# Altium schematic symbol library NX3L1T3157GM,115.SchLib: 2 symbols
Pins are listed as number, name and electrical type; pins without a type are passive.

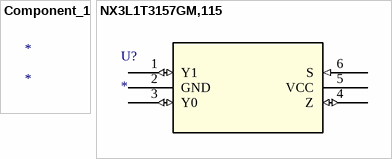
[diagram p0: symbols Component_1 to NX3L1T3157GM,115]

## Component_1
designator *

## NX3L1T3157GM,115
designator U?
No Description Available; Mfr_Name: NXP; RefDes: RefDes; Type: Type
footprint XSON6_SOT886_NXP
pins: 1 Y1 (io), 2 GND (power), 3 Y0 (io), 4 Z (io), 5 VCC (power), 6 S (in)